# Altium schematic symbol library ERA-2AEB6042X.SchLib: 2 symbols
Pins are listed as number, name and electrical type; pins without a type are passive.

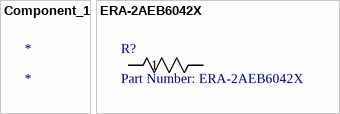
[diagram p0: symbols Component_1 to ERA-2AEB6042X]

## Component_1
designator *

## ERA-2AEB6042X
designator R?, comment Part Number: ERA-2AEB6042X
No Description Available; Vendor: Panasonic; Built_By: EMA_UL_Team; Manufacturer_Part_Number: ERA-2AEB6042X; Copyright: Copyright (C) 2018 Accelerated Designs. All rights reserved; RefDes: RefDes; Type: DEV; Value: Value
footprint 0402
pins: 1, 2